# Altium schematic symbol library 2pinsHeader.SchLib: 1 symbol
Pins are listed as number, name and electrical type; pins without a type are passive.

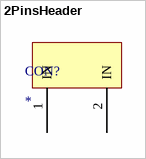
[diagram p0: symbol 2PinsHeader]

## 2PinsHeader
designator CON?
footprint 2PinsHeader
pins: 1 IN, 2 IN